# Altium footprint library SAMTEC-SQW-108-01-X-D.PCBLIB: 1 footprints
Each footprint in its own frame and in the unit in brackets; x right, y up, seen from the top. Pads: shape width x height; smd on the part's side, far side on the other; paste and mask are expansions set on the pad; w line width, h text height; cw(c..) or ccw(c..) is an arc to the next point about the centre after c.
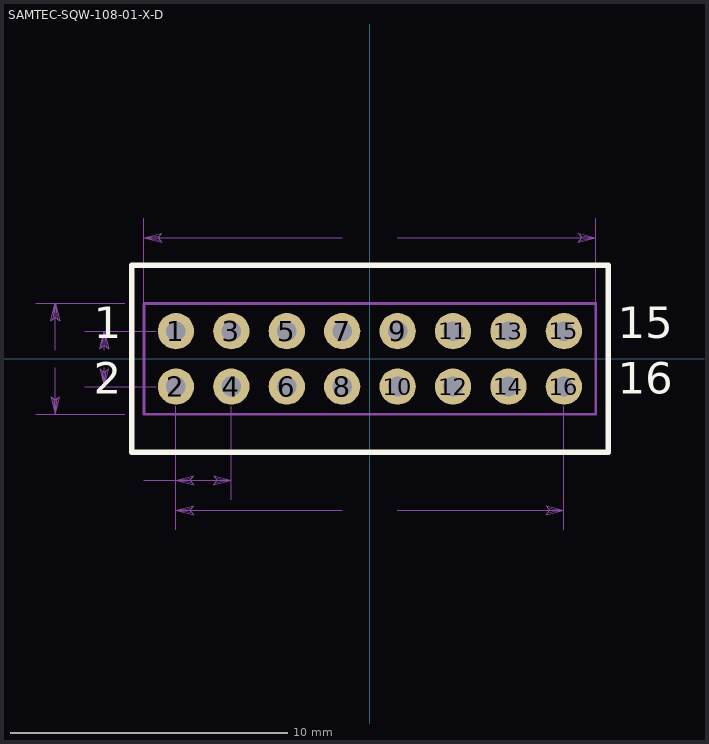
[diagram p0: the footprint, top view; thin cyan lines are the x and y axes]

## SAMTEC-SQW-108-01-X-D [mm]
pads (16):
  round 1.31 / inner round 1.524 / far side round 1.31 hole 0.71: 1(-7,1) 2(-7,-1) 3(-5,1) 4(-5,-1) 5(-3,1) 6(-3,-1) 7(-1,1) 8(-1,-1) 9(1,1) 10(1,-1) 11(3,1) 12(3,-1) 13(5,1) 14(5,-1) 15(7,1) 16(7,-1)
Top Overlay:
  lines w0.2: -8.599,-3.37 8.599,-3.37 8.599,3.37 -8.599,3.37 -8.599,-3.37
  text "15" at 8.939,0.365 h1.97
  text "16" at 8.939,-1.635 h1.97
  text "1" at -9.969,0.365 h1.97
  text "2" at -9.969,-1.635 h1.97
Top Paste:
  drawing of 16 lines, arcs and shapes, not listed
Top Solder:
  circle w0: c-7,1 r0.706
  circle w0: c-7,-1 r0.706
  circle w0: c-5,1 r0.706
  circle w0: c-5,-1 r0.706
  circle w0: c-3,1 r0.706
  circle w0: c-3,-1 r0.706
  circle w0: c-1,1 r0.706
  circle w0: c-1,-1 r0.706
  circle w0: c1,1 r0.706
  circle w0: c1,-1 r0.706
  circle w0: c3,1 r0.706
  circle w0: c3,-1 r0.706
  circle w0: c5,1 r0.706
  circle w0: c5,-1 r0.706
  circle w0: c7,1 r0.706
  circle w0: c7,-1 r0.706
Bottom Solder:
  circle w0: c-7,1 r0.706
  circle w0: c-7,-1 r0.706
  circle w0: c-5,1 r0.706
  circle w0: c-5,-1 r0.706
  circle w0: c-3,1 r0.706
  circle w0: c-3,-1 r0.706
  circle w0: c-1,1 r0.706
  circle w0: c-1,-1 r0.706
  circle w0: c1,1 r0.706
  circle w0: c1,-1 r0.706
  circle w0: c3,1 r0.706
  circle w0: c3,-1 r0.706
  circle w0: c5,1 r0.706
  circle w0: c5,-1 r0.706
  circle w0: c7,1 r0.706
  circle w0: c7,-1 r0.706
Assembly Top:
  lines w0.1: -8.149,-2 -6,-2 -4,-2 -2,-2 0,-2 2,-2 4,-2 6,-2 8.149,-2 8.149,2 6,2 4,2 2,2 0,2 -2,2 -4,2 -6,2 -8.149,2 -8.149,-2 ; -7.25,-1.25 -7.25,-0.75 -6.75,-0.75 -6.75,-1.25 -7.25,-1.25 ; -7.25,0.75 -7.25,1.25 -6.75,1.25 -6.75,0.75 -7.25,0.75 ; -5.25,-1.25 -5.25,-0.75 -4.75,-0.75 -4.75,-1.25 -5.25,-1.25 ; -5.25,0.75 -5.25,1.25 -4.75,1.25 -4.75,0.75 -5.25,0.75 ; -3.25,-1.25 -3.25,-0.75 -2.75,-0.75 -2.75,-1.25 -3.25,-1.25 ; -3.25,0.75 -3.25,1.25 -2.75,1.25 -2.75,0.75 -3.25,0.75 ; -1.25,-1.25 -1.25,-0.75 -0.75,-0.75 -0.75,-1.25 -1.25,-1.25 ; -1.25,0.75 -1.25,1.25 -0.75,1.25 -0.75,0.75 -1.25,0.75 ; 0.75,-1.25 0.75,-0.75 1.25,-0.75 1.25,-1.25 0.75,-1.25 ; 0.75,0.75 0.75,1.25 1.25,1.25 1.25,0.75 0.75,0.75 ; 2.75,-1.25 2.75,-0.75 3.25,-0.75 3.25,-1.25 2.75,-1.25 ; 2.75,0.75 2.75,1.25 3.25,1.25 3.25,0.75 2.75,0.75 ; 4.75,-1.25 4.75,-0.75 5.25,-0.75 5.25,-1.25 4.75,-1.25 ; 4.75,0.75 4.75,1.25 5.25,1.25 5.25,0.75 4.75,0.75 ; 6.75,-1.25 7.25,-1.25 7.25,-0.75 6.75,-0.75 6.75,-1.25 ; 6.75,0.75 6.75,1.25 7.25,1.25 7.25,0.75 6.75,0.75
  text "1" at -9.969,0.365 h1.97
  text "2" at -9.969,-1.635 h1.97
  text "15" at 8.939,0.365 h1.97
  text "16" at 8.939,-1.635 h1.97
pDim:
  lines w0: -12.055,-1.999 -8.854,-1.999 ; -12.055,2.002 -8.854,2.002 ; -11.354,-0.318 -11.354,-1.999 ; -11.354,0.318 -11.354,2.002 ; -10.29,-1 -7.701,-1 ; -10.29,1 -7.701,1 ; -9.588,-0.318 -9.588,-1 ; -9.588,0.318 -9.588,1 ; -8.166,-4.382 -7,-4.382 ; -8.153,-1.298 -8.153,5.07 ; -7,-6.162 -7,-1.701 -7,-5.083 ; -5,-5.083 -5,-1.701 ; -0.991,-5.461 -7,-5.461 ; -0.991,4.369 -8.153,4.369 ; 0.991,-5.461 7,-5.461 ; 0.991,4.369 8.153,4.369 ; 7,-6.162 7,-1.701 ; 8.153,-1.298 8.153,5.07 ; -11.513,-1.364 -11.354,-1.999 ; -11.513,-1.364 -11.354,-1.491 ; -11.513,-1.364 -11.433,-1.427 -11.354,-1.999 ; -11.354,-1.999 -11.195,-1.364 -11.354,-1.491 ; -11.354,-1.999 -11.274,-1.427 -11.354,-1.491 ; -11.354,-1.999 -11.354,-1.491 ; -11.354,1.494 -11.513,1.367 -11.354,2.002 ; -11.354,1.494 -11.195,1.367 ; -11.354,1.494 -11.433,1.43 -11.354,2.002 ; -11.354,1.494 -11.354,2.002 ; -11.354,2.002 -11.195,1.367 ; -11.354,2.002 -11.274,1.43 -11.195,1.367 ; -9.747,-0.365 -9.588,-1 ; -9.747,-0.365 -9.588,-0.492 ; -9.747,-0.365 -9.668,-0.428 -9.588,-1 ; -9.588,-1 -9.43,-0.365 -9.588,-0.492 ; -9.588,-1 -9.509,-0.428 -9.588,-0.492 ; -9.588,-1 -9.588,-0.492 ; -9.588,0.492 -9.747,0.365 -9.588,1 ; -9.588,0.492 -9.43,0.365 ; -9.588,0.492 -9.668,0.428 -9.588,1 ; -9.588,0.492 -9.588,1 ; -9.588,1 -9.43,0.365 ; -9.588,1 -9.509,0.428 -9.43,0.365 ; -8.153,4.369 -7.518,4.528 ; -8.153,4.369 -7.518,4.21 -7.645,4.369 ; -8.153,4.369 -7.582,4.289 -7.645,4.369 ; -8.153,4.369 -7.645,4.369 ; -8.153,4.369 -7.582,4.448 -7.518,4.528 ; -7.645,4.369 -7.518,4.528 ; -7,-5.461 -6.365,-5.302 ; -7,-5.461 -6.365,-5.62 -6.492,-5.461 ; -7,-5.461 -6.428,-5.54 -6.492,-5.461 ; -7,-5.461 -6.492,-5.461 ; -7,-5.461 -6.428,-5.382 -6.365,-5.302 ; -7,-4.382 -6.365,-4.223 ; -7,-4.382 -6.365,-4.54 -6.492,-4.382 ; -7,-4.382 -6.428,-4.461 -6.492,-4.382 ; -7,-4.382 -6.492,-4.382 ; -7,-4.382 -6.428,-4.302 -6.365,-4.223 ; -7,-4.382 -5,-4.382 ; -6.492,-5.461 -6.365,-5.302 ; -6.492,-4.382 -6.365,-4.223 ; -5.635,-4.54 -5,-4.382 ; -5.635,-4.54 -5.508,-4.382 ; -5.635,-4.54 -5.571,-4.461 -5,-4.382 ; -5.508,-4.382 -5.635,-4.223 -5,-4.382 ; -5.508,-4.382 -5.571,-4.302 -5,-4.382 ; -5.508,-4.382 -5,-4.382 ; 6.365,-5.62 7,-5.461 ; 6.365,-5.62 6.492,-5.461 ; 6.365,-5.62 6.428,-5.54 7,-5.461 ; 6.492,-5.461 6.365,-5.302 7,-5.461 ; 6.492,-5.461 6.428,-5.382 7,-5.461 ; 6.492,-5.461 7,-5.461 ; 7.518,4.21 8.153,4.369 ; 7.518,4.21 7.645,4.369 ; 7.518,4.21 7.582,4.289 8.153,4.369 ; 7.645,4.369 7.518,4.528 8.153,4.369 ; 7.645,4.369 7.582,4.448 8.153,4.369 ; 7.645,4.369 8.153,4.369
  text "2.000" at -9.677,-4.508 h0.39
  text "2.000" at -10.249,-0.127 h0.39
  text "4.000" at -12.014,-0.127 h0.39
  text "14.000" at -0.8,-5.588 h0.39
  text "16.307" at -0.8,4.242 h0.39
pCourtYard:
  lines w0.1: -8.599,-3.37 -8.599,3.37 8.599,3.37 8.599,-3.37 -8.599,-3.37